# Altium footprint library Standard.PcbLib: 1 footprints
Each footprint in its own frame and in the unit in brackets; x right, y up, seen from the top. Pads: shape width x height; smd on the part's side, far side on the other; paste and mask are expansions set on the pad; w line width, h text height; cw(c..) or ccw(c..) is an arc to the next point about the centre after c.
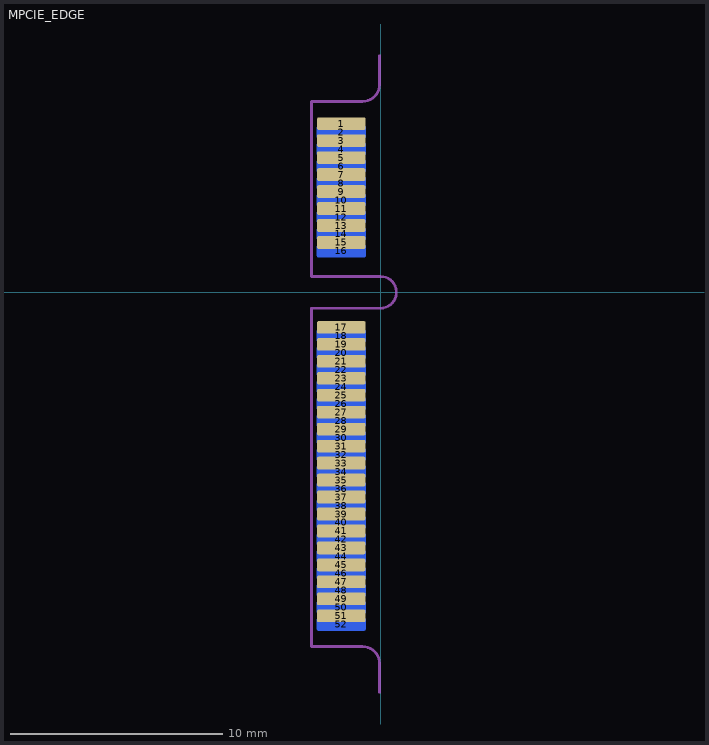
[diagram p0: the footprint, top view; thin cyan lines are the x and y axes]

## MPCIE_EDGE [mm]
pads (52):
  rrect30% 2.3x0.6 smd paste-25.4 mask+0.051: 1(-1.85,7.95) 3(-1.85,7.15) 5(-1.85,6.35) 7(-1.85,5.55) 9(-1.85,4.75) 11(-1.85,3.95) 13(-1.85,3.15) 15(-1.85,2.35) 17(-1.85,-1.65) 19(-1.85,-2.45) 21(-1.85,-3.25) 23(-1.85,-4.05) 25(-1.85,-4.85) 27(-1.85,-5.65) 29(-1.85,-6.45) 31(-1.85,-7.25) 33(-1.85,-8.05) 35(-1.85,-8.85) 37(-1.85,-9.65) 39(-1.85,-10.45) 41(-1.85,-11.25) 43(-1.85,-12.05) 45(-1.85,-12.85) 47(-1.85,-13.65) 49(-1.85,-14.45) 51(-1.85,-15.25)
  rrect30% 2.3x0.6 smd far side paste-25.4 mask+0.051: 2(-1.85,7.55) 4(-1.85,6.75) 6(-1.85,5.95) 8(-1.85,5.15) 10(-1.85,4.35) 12(-1.85,3.55) 14(-1.85,2.75) 16(-1.85,1.95) 18(-1.85,-2.05) 20(-1.85,-2.85) 22(-1.85,-3.65) 24(-1.85,-4.45) 26(-1.85,-5.25) 28(-1.85,-6.05) 30(-1.85,-6.85) 32(-1.85,-7.65) 34(-1.85,-8.45) 36(-1.85,-9.25) 38(-1.85,-10.05) 40(-1.85,-10.85) 42(-1.85,-11.65) 44(-1.85,-12.45) 46(-1.85,-13.25) 48(-1.85,-14.05) 50(-1.85,-14.85) 52(-1.85,-15.65)
Top Component Outline:
  lines w0.127: -0.05,-18.85 -0.05,-17.5 ccw(c-0.85,-17.5) -0.85,-16.7 -3.25,-16.7 -3.25,-0.75 0,-0.75 ccw(c0,0) 0,0.75 -3.25,0.75 -3.25,9 -0.85,9 ccw(c-0.85,9.8) -0.05,9.8 -0.05,11.15